# Altium footprint library LM_docking_13P.PcbLib: 1 footprints
Each footprint in its own frame and in the unit in brackets; x right, y up, seen from the top. Pads: shape width x height; smd on the part's side, far side on the other; paste and mask are expansions set on the pad; w line width, h text height; cw(c..) or ccw(c..) is an arc to the next point about the centre after c.
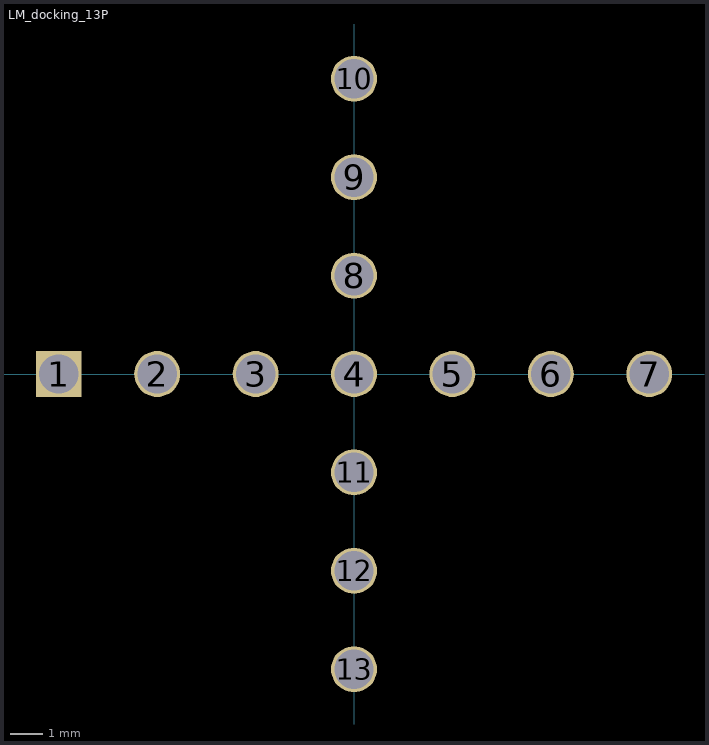
[diagram p0: the footprint, top view; thin cyan lines are the x and y axes]

## LM_docking_13P [mm]
pads (13):
  rect 1.4x1.4 hole 1.2 mask+0.05: 1(-9,0)
  round 1.4 hole 1.2 mask+0.05: 2(-6,0) 3(-3,0) 4(0,0) 5(3,0) 6(6,0) 7(9,0) 8(0,3) 9(0,6) 10(0,9) 11(0,-3) 12(0,-6) 13(0,-9)
3D body: height 1.2, standoff -1.2, extent -9.998,-9.998 9.998,9.998